# EAGLE library part EG1271A (library EG1271A)
Slide Switch SPDT Through Hole Check availability <https://pricing.snapeda.com/parts/EG1271A/E-Switch/view-part?ref=eda>
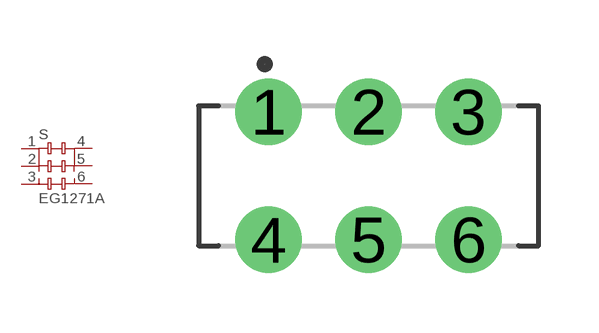
[diagram p0: symbol with the pads of SW_EG1271A; footprint SW_EG1271A]

Designator prefix S

## EG1271A (AVAILABILITY: In Stock; DESCRIPTION: Slide Switch SPDT Through Hole; MF: E-Switch; MP: EG1271A; PACKAGE: None; PRICE: None; PURCHASE-URL: https://pricing.snapeda.com/search/part/EG1271A/?ref=eda)  [SW_EG1271A]
1  1  pas
2  2  pas
3  3  pas
4  4  pas
5  5  pas
6  6  pas

## Footprint SW_EG1271A (pad centres in mm)
drill 1.016 pad 1.651: 1 -2.5,1.6; 2 0,1.6; 3 2.5,1.6; 4 -2.5,-1.6; 5 0,-1.6; 6 2.5,-1.6